# EAGLE library part RPI-CM4 (library RPI-CM4)
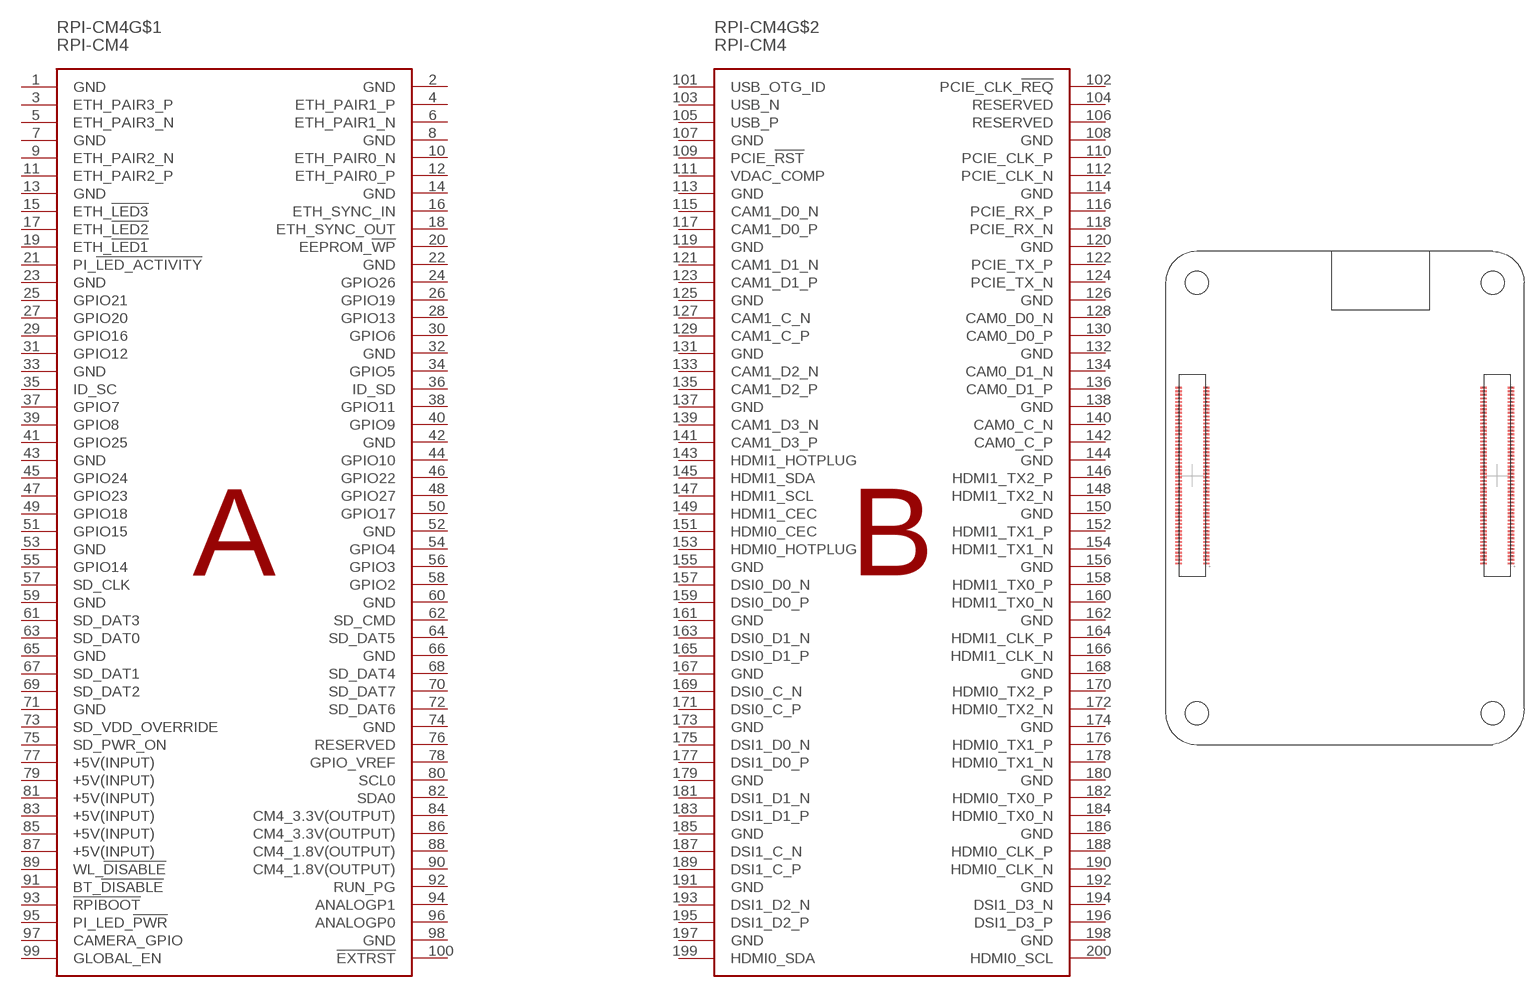
[diagram p0: symbol with the pads of RPI-CM4; footprint RPI-CM4]

Designator prefix RPI-CM4; gates G$1=RPI-CM4-A G$2=RPI-CM4-B

## RPI-CM4  [RPI-CM4]
1  G$1:GND  pas
2  G$1:GND  pas
3  G$1:ETH_PAIR3_P  pas
4  G$1:ETH_PAIR1_P  pas
5  G$1:ETH_PAIR3_N  pas
6  G$1:ETH_PAIR1_N  pas
7  G$1:GND  pas
8  G$1:GND  pas
9  G$1:ETH_PAIR2_N  pas
10  G$1:ETH_PAIR0_N  pas
11  G$1:ETH_PAIR2_P  pas
12  G$1:ETH_PAIR0_P  pas
13  G$1:GND  pas
14  G$1:GND  pas
15  G$1:ETH_!LED3  pas
16  G$1:ETH_SYNC_IN  pas
17  G$1:ETH_!LED2  pas
18  G$1:ETH_SYNC_OUT  pas
19  G$1:ETH_!LED1  pas
20  G$1:EEPROM_!WP  pas
21  G$1:PI_!LED_ACTIVITY  pas
22  G$1:GND  pas
23  G$1:GND  pas
24  G$1:GPIO26  pas
25  G$1:GPIO21  pas
26  G$1:GPIO19  pas
27  G$1:GPIO20  pas
28  G$1:GPIO13  pas
29  G$1:GPIO16  pas
30  G$1:GPIO6  pas
31  G$1:GPIO12  pas
32  G$1:GND  pas
33  G$1:GND  pas
34  G$1:GPIO5  pas
35  G$1:ID_SC  pas
36  G$1:ID_SD  pas
37  G$1:GPIO7  pas
38  G$1:GPIO11  pas
39  G$1:GPIO8  pas
40  G$1:GPIO9  pas
41  G$1:GPIO25  pas
42  G$1:GND  pas
43  G$1:GND  pas
44  G$1:GPIO10  pas
45  G$1:GPIO24  pas
46  G$1:GPIO22  pas
47  G$1:GPIO23  pas
48  G$1:GPIO27  pas
49  G$1:GPIO18  pas
50  G$1:GPIO17  pas
51  G$1:GPIO15  pas
52  G$1:GND  pas
53  G$1:GND  pas
54  G$1:GPIO4  pas
55  G$1:GPIO14  pas
56  G$1:GPIO3  pas
57  G$1:SD_CLK  pas
58  G$1:GPIO2  pas
59  G$1:GND  pas
60  G$1:GND  pas
61  G$1:SD_DAT3  pas
62  G$1:SD_CMD  pas
63  G$1:SD_DAT0  pas
64  G$1:SD_DAT5  pas
65  G$1:GND  pas
66  G$1:GND  pas
67  G$1:SD_DAT1  pas
68  G$1:SD_DAT4  pas
69  G$1:SD_DAT2  pas
70  G$1:SD_DAT7  pas
71  G$1:GND  pas
72  G$1:SD_DAT6  pas
73  G$1:SD_VDD_OVERRIDE  pas
74  G$1:GND  pas
75  G$1:SD_PWR_ON  pas
76  G$1:RESERVED  pas
77  G$1:+5V(INPUT)  pas
78  G$1:GPIO_VREF  pas
79  G$1:+5V(INPUT)  pas
80  G$1:SCL0  pas
81  G$1:+5V(INPUT)  pas
82  G$1:SDA0  pas
83  G$1:+5V(INPUT)  pas
84  G$1:CM4_3.3V(OUTPUT)  pas
85  G$1:+5V(INPUT)  pas
86  G$1:CM4_3.3V(OUTPUT)  pas
87  G$1:+5V(INPUT)  pas
88  G$1:CM4_1.8V(OUTPUT)  pas
89  G$1:WL_!DISABLE  pas
90  G$1:CM4_1.8V(OUTPUT)  pas
91  G$1:BT_!DISABLE  pas
92  G$1:RUN_PG  pas
93  G$1:!RPIBOOT  pas
94  G$1:ANALOGP1  pas
95  G$1:PI_LED_!PWR  pas
96  G$1:ANALOGP0  pas
97  G$1:CAMERA_GPIO  pas
98  G$1:GND  pas
99  G$1:GLOBAL_EN  pas
100  G$1:!EXTRST  pas
101  G$2:USB_OTG_ID  pas
102  G$2:PCIE_CLK_!REQ  pas
103  G$2:USB_N  pas
104  G$2:RESERVED  pas
105  G$2:USB_P  pas
106  G$2:RESERVED  pas
107  G$2:GND  pas
108  G$2:GND  pas
109  G$2:PCIE_!RST  pas
110  G$2:PCIE_CLK_P  pas
111  G$2:VDAC_COMP  pas
112  G$2:PCIE_CLK_N  pas
113  G$2:GND  pas
114  G$2:GND  pas
115  G$2:CAM1_D0_N  pas
116  G$2:PCIE_RX_P  pas
117  G$2:CAM1_D0_P  pas
118  G$2:PCIE_RX_N  pas
119  G$2:GND  pas
120  G$2:GND  pas
121  G$2:CAM1_D1_N  pas
122  G$2:PCIE_TX_P  pas
123  G$2:CAM1_D1_P  pas
124  G$2:PCIE_TX_N  pas
125  G$2:GND  pas
126  G$2:GND  pas
127  G$2:CAM1_C_N  pas
128  G$2:CAM0_D0_N  pas
129  G$2:CAM1_C_P  pas
130  G$2:CAM0_D0_P  pas
131  G$2:GND  pas
132  G$2:GND  pas
133  G$2:CAM1_D2_N  pas
134  G$2:CAM0_D1_N  pas
135  G$2:CAM1_D2_P  pas
136  G$2:CAM0_D1_P  pas
137  G$2:GND  pas
138  G$2:GND  pas
139  G$2:CAM1_D3_N  pas
140  G$2:CAM0_C_N  pas
141  G$2:CAM1_D3_P  pas
142  G$2:CAM0_C_P  pas
143  G$2:HDMI1_HOTPLUG  pas
144  G$2:GND  pas
145  G$2:HDMI1_SDA  pas
146  G$2:HDMI1_TX2_P  pas
147  G$2:HDMI1_SCL  pas
148  G$2:HDMI1_TX2_N  pas
149  G$2:HDMI1_CEC  pas
150  G$2:GND  pas
151  G$2:HDMI0_CEC  pas
152  G$2:HDMI1_TX1_P  pas
153  G$2:HDMI0_HOTPLUG  pas
154  G$2:HDMI1_TX1_N  pas
155  G$2:GND  pas
156  G$2:GND  pas
157  G$2:DSI0_D0_N  pas
158  G$2:HDMI1_TX0_P  pas
159  G$2:DSI0_D0_P  pas
160  G$2:HDMI1_TX0_N  pas
161  G$2:GND  pas
162  G$2:GND  pas
163  G$2:DSI0_D1_N  pas
164  G$2:HDMI1_CLK_P  pas
165  G$2:DSI0_D1_P  pas
166  G$2:HDMI1_CLK_N  pas
167  G$2:GND  pas
168  G$2:GND  pas
169  G$2:DSI0_C_N  pas
170  G$2:HDMI0_TX2_P  pas
171  G$2:DSI0_C_P  pas
172  G$2:HDMI0_TX2_N  pas
173  G$2:GND  pas
174  G$2:GND  pas
175  G$2:DSI1_D0_N  pas
176  G$2:HDMI0_TX1_P  pas
177  G$2:DSI1_D0_P  pas
178  G$2:HDMI0_TX1_N  pas
179  G$2:GND  pas
180  G$2:GND  pas
181  G$2:DSI1_D1_N  pas
182  G$2:HDMI0_TX0_P  pas
183  G$2:DSI1_D1_P  pas
184  G$2:HDMI0_TX0_N  pas
185  G$2:GND  pas
186  G$2:GND  pas
187  G$2:DSI1_C_N  pas
188  G$2:HDMI0_CLK_P  pas
189  G$2:DSI1_C_P  pas
190  G$2:HDMI0_CLK_N  pas
191  G$2:GND  pas
192  G$2:GND  pas
193  G$2:DSI1_D2_N  pas
194  G$2:DSI1_D3_N  pas
195  G$2:DSI1_D2_P  pas
196  G$2:DSI1_D3_P  pas
197  G$2:GND  pas
198  G$2:GND  pas
199  G$2:HDMI0_SDA  pas
200  G$2:HDMI0_SCL  pas

## Footprint RPI-CM4 (pad centres in mm)
smd 0.7 x 0.2: 1 -15.46,-7.3; 2 -18.54,-7.3; 3 -15.46,-6.9; 4 -18.54,-6.9; 5 -15.46,-6.5; 6 -18.54,-6.5; 7 -15.46,-6.1; 8 -18.54,-6.1; 9 -15.46,-5.7; 10 -18.54,-5.7; 11 -15.46,-5.3; 12 -18.54,-5.3; 13 -15.46,-4.9; 14 -18.54,-4.9; 15 -15.46,-4.5; 16 -18.54,-4.5; 17 -15.46,-4.1; 18 -18.54,-4.1; 19 -15.46,-3.7; 20 -18.54,-3.7; 21 -15.46,-3.3; 22 -18.54,-3.3; 23 -15.46,-2.9; 24 -18.54,-2.9; 25 -15.46,-2.5; 26 -18.54,-2.5; 27 -15.46,-2.1; 28 -18.54,-2.1; 29 -15.46,-1.7; 30 -18.54,-1.7; 31 -15.46,-1.3; 32 -18.54,-1.3; 33 -15.46,-0.9; 34 -18.54,-0.9; 35 -15.46,-0.5; 36 -18.54,-0.5; 37 -15.46,-0.1; 38 -18.54,-0.1; 39 -15.46,0.3; 40 -18.54,0.3; 41 -15.46,0.7; 42 -18.54,0.7; 43 -15.46,1.1; 44 -18.54,1.1; 45 -15.46,1.5; 46 -18.54,1.5; 47 -15.46,1.9; 48 -18.54,1.9; 49 -15.46,2.3; 50 -18.54,2.3; 51 -15.46,2.7; 52 -18.54,2.7; 53 -15.46,3.1; 54 -18.54,3.1; 55 -15.46,3.5; 56 -18.54,3.5; 57 -15.46,3.9; 58 -18.54,3.9; 59 -15.46,4.3; 60 -18.54,4.3; 61 -15.46,4.7; 62 -18.54,4.7; 63 -15.46,5.1; 64 -18.54,5.1; 65 -15.46,5.5; 66 -18.54,5.5; 67 -15.46,5.9; 68 -18.54,5.9; 69 -15.46,6.3; 70 -18.54,6.3; 71 -15.46,6.7; 72 -18.54,6.7; 73 -15.46,7.1; 74 -18.54,7.1; 75 -15.46,7.5; 76 -18.54,7.5; 77 -15.46,7.9; 78 -18.54,7.9; 79 -15.46,8.3; 80 -18.54,8.3; 81 -15.46,8.7; 82 -18.54,8.7; 83 -15.46,9.1; 84 -18.54,9.1; 85 -15.46,9.5; 86 -18.54,9.5; 87 -15.46,9.9; 88 -18.54,9.9; 89 -15.46,10.3; 90 -18.54,10.3; 91 -15.46,10.7; 92 -18.54,10.7; 93 -15.46,11.1; 94 -18.54,11.1; 95 -15.46,11.5; 96 -18.54,11.5; 97 -15.46,11.9; 98 -18.54,11.9; 99 -15.46,12.3; 100 -18.54,12.3; 101 18.54,-7.3; 102 15.46,-7.3; 103 18.54,-6.9; 104 15.46,-6.9; 105 18.54,-6.5; 106 15.46,-6.5; 107 18.54,-6.1; 108 15.46,-6.1; 109 18.54,-5.7; 110 15.46,-5.7; 111 18.54,-5.3; 112 15.46,-5.3; 113 18.54,-4.9; 114 15.46,-4.9; 115 18.54,-4.5; 116 15.46,-4.5; 117 18.54,-4.1; 118 15.46,-4.1; 119 18.54,-3.7; 120 15.46,-3.7; 121 18.54,-3.3; 122 15.46,-3.3; 123 18.54,-2.9; 124 15.46,-2.9; 125 18.54,-2.5; 126 15.46,-2.5; 127 18.54,-2.1; 128 15.46,-2.1; 129 18.54,-1.7; 130 15.46,-1.7; 131 18.54,-1.3; 132 15.46,-1.3; 133 18.54,-0.9; 134 15.46,-0.9; 135 18.54,-0.5; 136 15.46,-0.5; 137 18.54,-0.1; 138 15.46,-0.1; 139 18.54,0.3; 140 15.46,0.3; 141 18.54,0.7; 142 15.46,0.7; 143 18.54,1.1; 144 15.46,1.1; 145 18.54,1.5; 146 15.46,1.5; 147 18.54,1.9; 148 15.46,1.9; 149 18.54,2.3; 150 15.46,2.3; 151 18.54,2.7; 152 15.46,2.7; 153 18.54,3.1; 154 15.46,3.1; 155 18.54,3.5; 156 15.46,3.5; 157 18.54,3.9; 158 15.46,3.9; 159 18.54,4.3; 160 15.46,4.3; 161 18.54,4.7; 162 15.46,4.7; 163 18.54,5.1; 164 15.46,5.1; 165 18.54,5.5; 166 15.46,5.5; 167 18.54,5.9; 168 15.46,5.9; 169 18.54,6.3; 170 15.46,6.3; 171 18.54,6.7; 172 15.46,6.7; 173 18.54,7.1; 174 15.46,7.1; 175 18.54,7.5; 176 15.46,7.5; 177 18.54,7.9; 178 15.46,7.9; 179 18.54,8.3; 180 15.46,8.3; 181 18.54,8.7; 182 15.46,8.7; 183 18.54,9.1; 184 15.46,9.1; 185 18.54,9.5; 186 15.46,9.5; 187 18.54,9.9; 188 15.46,9.9; 189 18.54,10.3; 190 15.46,10.3; 191 18.54,10.7; 192 15.46,10.7; 193 18.54,11.1; 194 15.46,11.1; 195 18.54,11.5; 196 15.46,11.5; 197 18.54,11.9; 198 15.46,11.9; 199 18.54,12.3; 200 15.46,12.3
hole 2.55 at -16.5,24
hole 2.55 at 16.5,24
hole 2.55 at 16.5,-24
hole 2.55 at -16.5,-24